# EAGLE library part LPC1768/66/65/64FET (library nxp-arm)
MICROCONTROLLER 32-bit ARM Cortex-M3 microcontroller; up to 512 kB flash 64 kB SRAM with Ethernet, USB 2.0 Host/Device/OTG, CAN
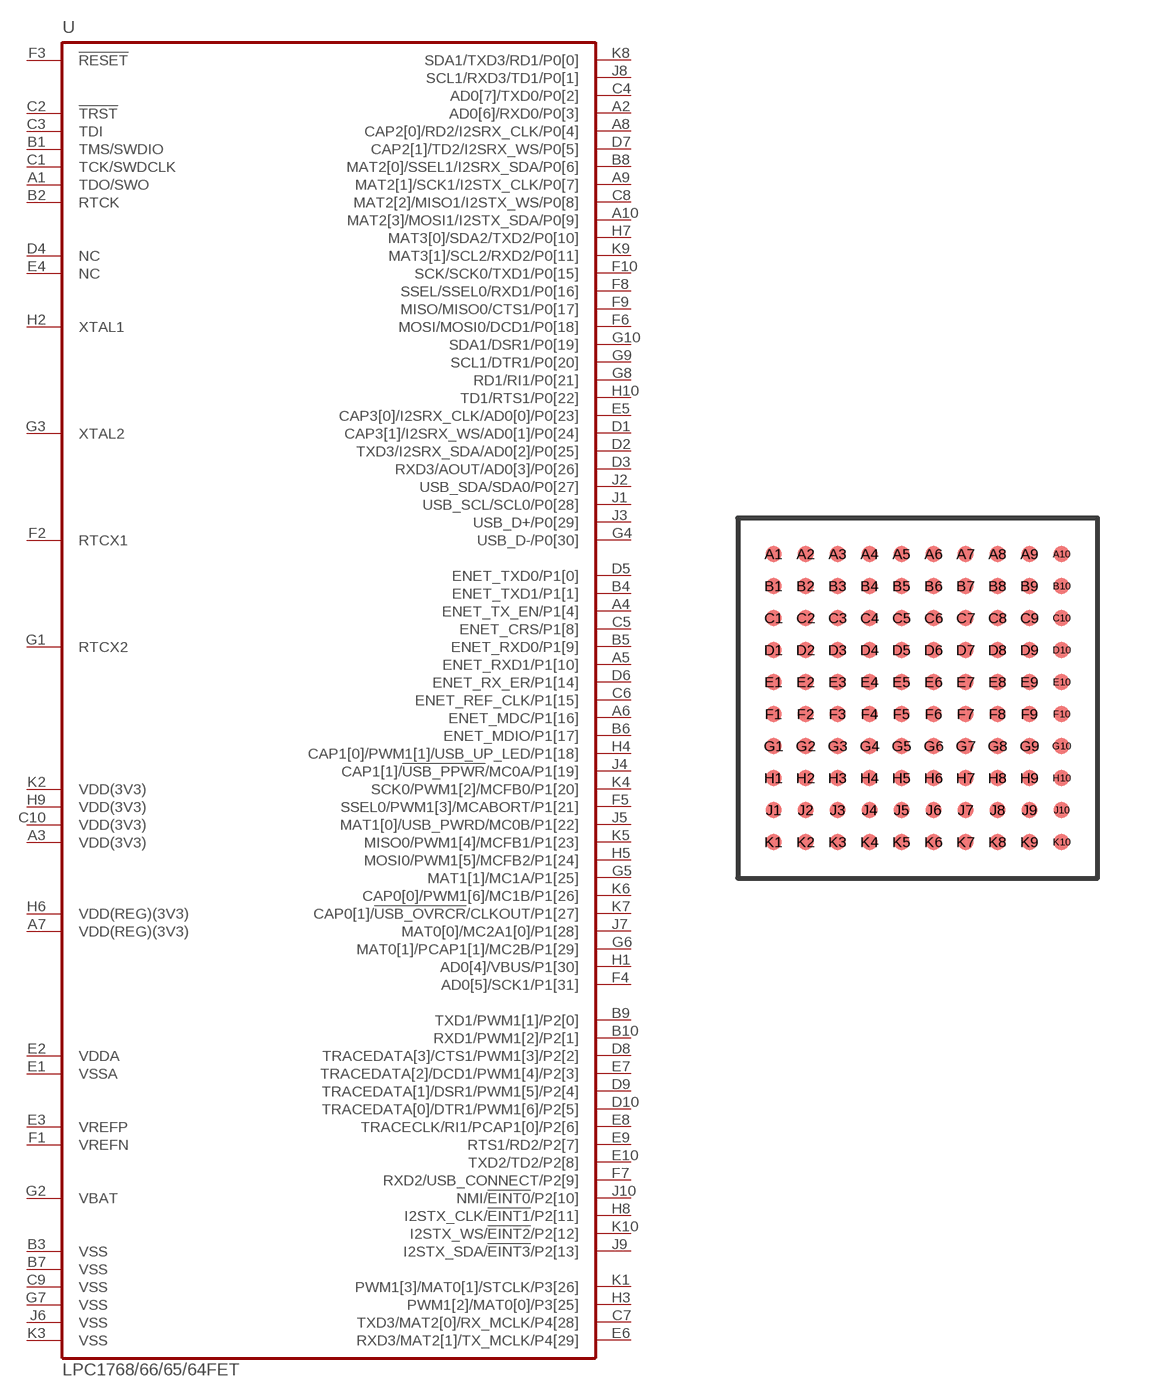
[diagram p15: symbol with the pads of TFBGA100; footprint TFBGA100]

Designator prefix U

## LPC1768/66/65/64FET (P1I: o)  [TFBGA100]
A1  TDO/SWO  out
A2  AD0[6]/RXD0/P0[3]
A3  VDD(3V3)  pwr
A4  ENET_TX_EN/P1[4]
A5  ENET_RXD1/P1[10]
A6  ENET_MDC/P1[16]
A7  VDD(REG)(3V3)  pwr
A8  CAP2[0]/RD2/I2SRX_CLK/P0[4]
A9  MAT2[1]/SCK1/I2STX_CLK/P0[7]
A10  MAT2[3]/MOSI1/I2STX_SDA/P0[9]
B1  TMS/SWDIO  in
B2  RTCK
B3  VSS  pwr
B4  ENET_TXD1/P1[1]
B5  ENET_RXD0/P1[9]
B6  ENET_MDIO/P1[17]
B7  VSS  pwr
B8  MAT2[0]/SSEL1/I2SRX_SDA/P0[6]
B9  TXD1/PWM1[1]/P2[0]
B10  RXD1/PWM1[2]/P2[1]
C1  TCK/SWDCLK  in
C2  !TRST!  in
C3  TDI  in
C4  AD0[7]/TXD0/P0[2]
C5  ENET_CRS/P1[8]
C6  ENET_REF_CLK/P1[15]
C7  TXD3/MAT2[0]/RX_MCLK/P4[28]
C8  MAT2[2]/MISO1/I2STX_WS/P0[8]
C9  VSS  pwr
C10  VDD(3V3)  pwr
D1  CAP3[1]/I2SRX_WS/AD0[1]/P0[24]
D2  TXD3/I2SRX_SDA/AD0[2]/P0[25]
D3  RXD3/AOUT/AD0[3]/P0[26]
D4  NC  nc
D5  ENET_TXD0/P1[0]
D6  ENET_RX_ER/P1[14]
D7  CAP2[1]/TD2/I2SRX_WS/P0[5]
D8  TRACEDATA[3]/CTS1/PWM1[3]/P2[2]
D9  TRACEDATA[1]/DSR1/PWM1[5]/P2[4]
D10  TRACEDATA[0]/DTR1/PWM1[6]/P2[5]
E1  VSSA  pwr
E2  VDDA  pwr
E3  VREFP  pwr
E4  NC  nc
E5  CAP3[0]/I2SRX_CLK/AD0[0]/P0[23]
E6  RXD3/MAT2[1]/TX_MCLK/P4[29]
E7  TRACEDATA[2]/DCD1/PWM1[4]/P2[3]
E8  TRACECLK/RI1/PCAP1[0]/P2[6]
E9  RTS1/RD2/P2[7]
E10  TXD2/TD2/P2[8]
F1  VREFN  pwr
F2  RTCX1  in
F3  !RESET!  in
F4  AD0[5]/SCK1/P1[31]
F5  SSEL0/PWM1[3]/MCABORT/P1[21]
F6  MOSI/MOSI0/DCD1/P0[18]
F7  RXD2/USB_CONNECT/P2[9]
F8  SSEL/SSEL0/RXD1/P0[16]
F9  MISO/MISO0/CTS1/P0[17]
F10  SCK/SCK0/TXD1/P0[15]
G1  RTCX2  out
G2  VBAT  pwr
G3  XTAL2  out
G4  USB_D-/P0[30]
G5  MAT1[1]/MC1A/P1[25]
G6  MAT0[1]/PCAP1[1]/MC2B/P1[29]
G7  VSS  pwr
G8  RD1/RI1/P0[21]
G9  SCL1/DTR1/P0[20]
G10  SDA1/DSR1/P0[19]
H1  AD0[4]/VBUS/P1[30]
H2  XTAL1  in
H3  PWM1[2]/MAT0[0]/P3[25]
H4  CAP1[0]/PWM1[1]/USB_UP_LED/P1[18]
H5  MOSI0/PWM1[5]/MCFB2/P1[24]
H6  VDD(REG)(3V3)  pwr
H7  MAT3[0]/SDA2/TXD2/P0[10]
H8  I2STX_CLK/!EINT1!/P2[11]
H9  VDD(3V3)  pwr
H10  TD1/RTS1/P0[22]
J1  USB_SCL/SCL0/P0[28]
J2  USB_SDA/SDA0/P0[27]
J3  USB_D+/P0[29]
J4  CAP1[1]/!USB_PPWR!/MC0A/P1[19]
J5  MAT1[0]/USB_PWRD/MC0B/P1[22]
J6  VSS  pwr
J7  MAT0[0]/MC2A1[0]/P1[28]
J8  SCL1/RXD3/TD1/P0[1]
J9  I2STX_SDA/!EINT3!/P2[13]
J10  NMI/!EINT0!/P2[10]
K1  PWM1[3]/MAT0[1]/STCLK/P3[26]
K2  VDD(3V3)  pwr
K3  VSS  pwr
K4  SCK0/PWM1[2]/MCFB0/P1[20]
K5  MISO0/PWM1[4]/MCFB1/P1[23]
K6  CAP0[0]/PWM1[6]/MC1B/P1[26]
K7  CAP0[1]/!USB_OVRCR!/CLKOUT/P1[27]
K8  SDA1/TXD3/RD1/P0[0]
K9  MAT3[1]/SCL2/RXD2/P0[11]
K10  I2STX_WS/!EINT2!/P2[12]

## Footprint TFBGA100 (pad centres in mm)
TFBGA100 body 9 x 9 x 0.8 mm, pitch 0.8 mm outline SOT926-1
smd 0.4 x 0.4: A1 -3.6,3.6; A2 -2.8,3.6; A3 -2,3.6; A4 -1.2,3.6; A5 -0.4,3.6; A6 0.4,3.6; A7 1.2,3.6; A8 2,3.6; A9 2.8,3.6; A10 3.6,3.6; B1 -3.6,2.8; B2 -2.8,2.8; B3 -2,2.8; B4 -1.2,2.8; B5 -0.4,2.8; B6 0.4,2.8; B7 1.2,2.8; B8 2,2.8; B9 2.8,2.8; B10 3.6,2.8; C1 -3.6,2; C2 -2.8,2; C3 -2,2; C4 -1.2,2; C5 -0.4,2; C6 0.4,2; C7 1.2,2; C8 2,2; C9 2.8,2; C10 3.6,2; D1 -3.6,1.2; D2 -2.8,1.2; D3 -2,1.2; D4 -1.2,1.2; D5 -0.4,1.2; D6 0.4,1.2; D7 1.2,1.2; D8 2,1.2; D9 2.8,1.2; D10 3.6,1.2; E1 -3.6,0.4; E2 -2.8,0.4; E3 -2,0.4; E4 -1.2,0.4; E5 -0.4,0.4; E6 0.4,0.4; E7 1.2,0.4; E8 2,0.4; E9 2.8,0.4; E10 3.6,0.4; F1 -3.6,-0.4; F2 -2.8,-0.4; F3 -2,-0.4; F4 -1.2,-0.4; F5 -0.4,-0.4; F6 0.4,-0.4; F7 1.2,-0.4; F8 2,-0.4; F9 2.8,-0.4; F10 3.6,-0.4; G1 -3.6,-1.2; G2 -2.8,-1.2; G3 -2,-1.2; G4 -1.2,-1.2; G5 -0.4,-1.2; G6 0.4,-1.2; G7 1.2,-1.2; G8 2,-1.2; G9 2.8,-1.2; G10 3.6,-1.2; H1 -3.6,-2; H2 -2.8,-2; H3 -2,-2; H4 -1.2,-2; H5 -0.4,-2; H6 0.4,-2; H7 1.2,-2; H8 2,-2; H9 2.8,-2; H10 3.6,-2; J1 -3.6,-2.8; J2 -2.8,-2.8; J3 -2,-2.8; J4 -1.2,-2.8; J5 -0.4,-2.8; J6 0.4,-2.8; J7 1.2,-2.8; J8 2,-2.8; J9 2.8,-2.8; J10 3.6,-2.8; K1 -3.6,-3.6; K2 -2.8,-3.6; K3 -2,-3.6; K4 -1.2,-3.6; K5 -0.4,-3.6; K6 0.4,-3.6; K7 1.2,-3.6; K8 2,-3.6; K9 2.8,-3.6; K10 3.6,-3.6